# Altium footprint library serial_port.PcbLib: 1 footprints
Each footprint in its own frame and in the unit in brackets; x right, y up, seen from the top. Pads: shape width x height; smd on the part's side, far side on the other; paste and mask are expansions set on the pad; w line width, h text height; cw(c..) or ccw(c..) is an arc to the next point about the centre after c.
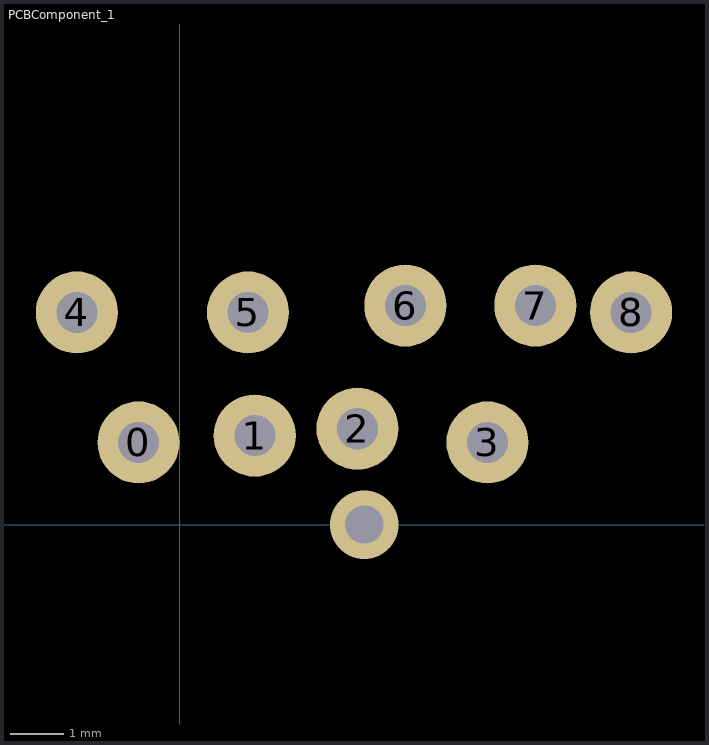
[diagram p0: the footprint, top view; thin cyan lines are the x and y axes]

## PCBComponent_1 [mil]
pads (9):
  round 60 hole 30: 0(-30,60) 1(55,65) 2(130,70) 3(225,60) 4(-75,155) 5(50,155) 6(165,160) 7(260,160) 8(330,155)
via 135,0 diameter 50 hole 28
via -210,15 diameter 50 hole 28